# EAGLE library part PIC24FJ16MC101 (library IC & Transistor)
PIC24FJ16MC101
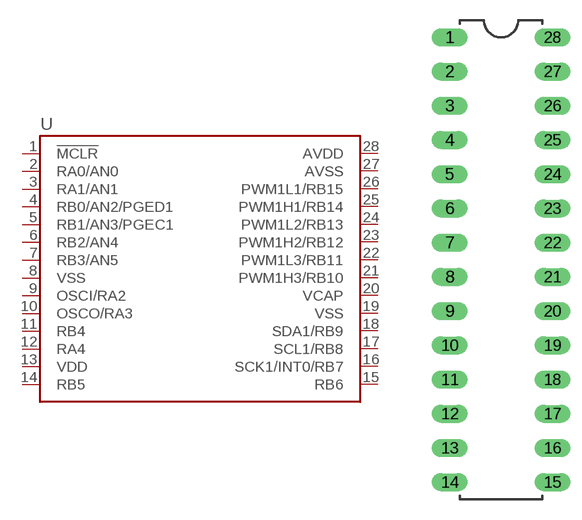
[diagram p25: symbol with the pads of DIP-28; footprint DIP-28]

Designator prefix -

## PIC24FJ16MC101  [DIP-28]
1  !MCLR!
2  RA0/AN0
3  RA1/AN1
4  RB0/AN2/PGED1
5  RB1/AN3/PGEC1
6  RB2/AN4
7  RB3/AN5
8  VSS
9  OSCI/RA2
10  OSCO/RA3
11  RB4
12  RA4
13  VDD
14  RB5
15  RB6
16  SCK1/INT0/RB7
17  SCL1/RB8
18  SDA1/RB9
19  VSS
20  VCAP
21  PWM1H3/RB10
22  PWM1L3/RB11
23  PWM1H2/RB12
24  PWM1L2/RB13
25  PWM1H1/RB14
26  PWM1L1/RB15
27  AVSS
28  AVDD

## Footprint DIP-28 (pad centres in mm)
Standard 28-pin DIP package. IC needs to have legs bent before insertion.
drill 0.813 long: 1 -3.81,16.51; 2 -3.81,13.97; 3 -3.81,11.43; 4 -3.81,8.89; 5 -3.81,6.35; 6 -3.81,3.81; 7 -3.81,1.27; 8 -3.81,-1.27; 9 -3.81,-3.81; 10 -3.81,-6.35; 11 -3.81,-8.89; 12 -3.81,-11.43; 13 -3.81,-13.97; 14 -3.81,-16.51; 15 3.81,-16.51; 16 3.81,-13.97; 17 3.81,-11.43; 18 3.81,-8.89; 19 3.81,-6.35; 20 3.81,-3.81; 21 3.81,-1.27; 22 3.81,1.27; 23 3.81,3.81; 24 3.81,6.35; 25 3.81,8.89; 26 3.81,11.43; 27 3.81,13.97; 28 3.81,16.51